# EAGLE library part AD633JRZ (library AD633JRZ)
AD633JRZ, Analogue Multiplier 4-Bits 8-Pin SOIC Source: Datasheet <http://www.analog.com/static/imported-files/data_sheets/AD633.pdf>
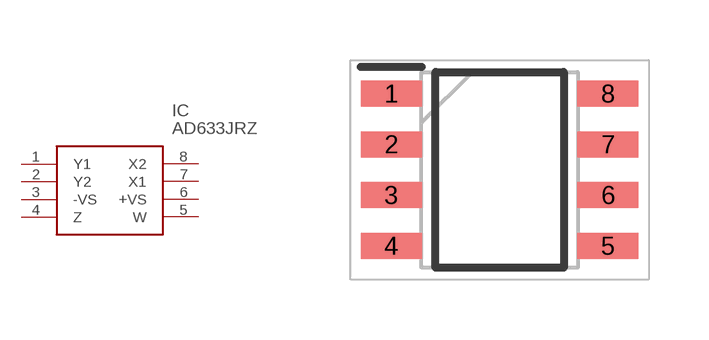
[diagram p0: symbol with the pads of SOIC127P600X175-8N; footprint SOIC127P600X175-8N]

Designator prefix IC

## AD633JRZ (Description: AD633JRZ, Analogue Multiplier 4-Bits 8-Pin SOIC; Height: 1.75mm; Manufacturer_Name: Analog Devices; Manufacturer_Part_Number: AD633JRZ; Mouser_Part_Number: 584-AD633JRZ; Mouser_Price-Stock: https://www.mouser.co.uk/ProductDetail/Analog-Devices/AD633JRZ?qs=NmRFExCfTkHsQMKUgIw9Ig%3D%3D)  [SOIC127P600X175-8N]
1  Y1
2  Y2
3  -VS
4  Z
5  W
6  +VS
7  X1
8  X2

## Footprint SOIC127P600X175-8N (pad centres in mm)
R-8 (SOIC)
smd 1.525 x 0.65: 1 -2.712,1.905; 2 -2.712,0.635; 3 -2.712,-0.635; 4 -2.712,-1.905; 5 2.712,-1.905; 6 2.712,-0.635; 7 2.712,0.635; 8 2.712,1.905